# Altium schematic symbol library Voltage Converters.SchLib: 1 symbol
Pins are listed as number, name and electrical type; pins without a type are passive.

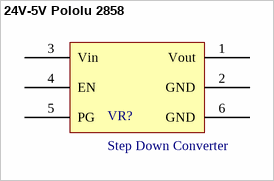
[diagram p0: symbol 24V-5V Pololu 2858]

## 24V-5V Pololu 2858
designator VR?, comment Step Down Converter
footprint 24V-5V Converter
pins: 1 Vout, 2 GND, 3 Vin, 4 EN, 5 PG, 6 GND